# Altium footprint library STM32.PcbLib: 27 footprints (part 1 of 2)
Each footprint in its own frame and in the unit in brackets; x right, y up, seen from the top. Pads: shape width x height; smd on the part's side, far side on the other; paste and mask are expansions set on the pad; w line width, h text height; cw(c..) or ccw(c..) is an arc to the next point about the centre after c.
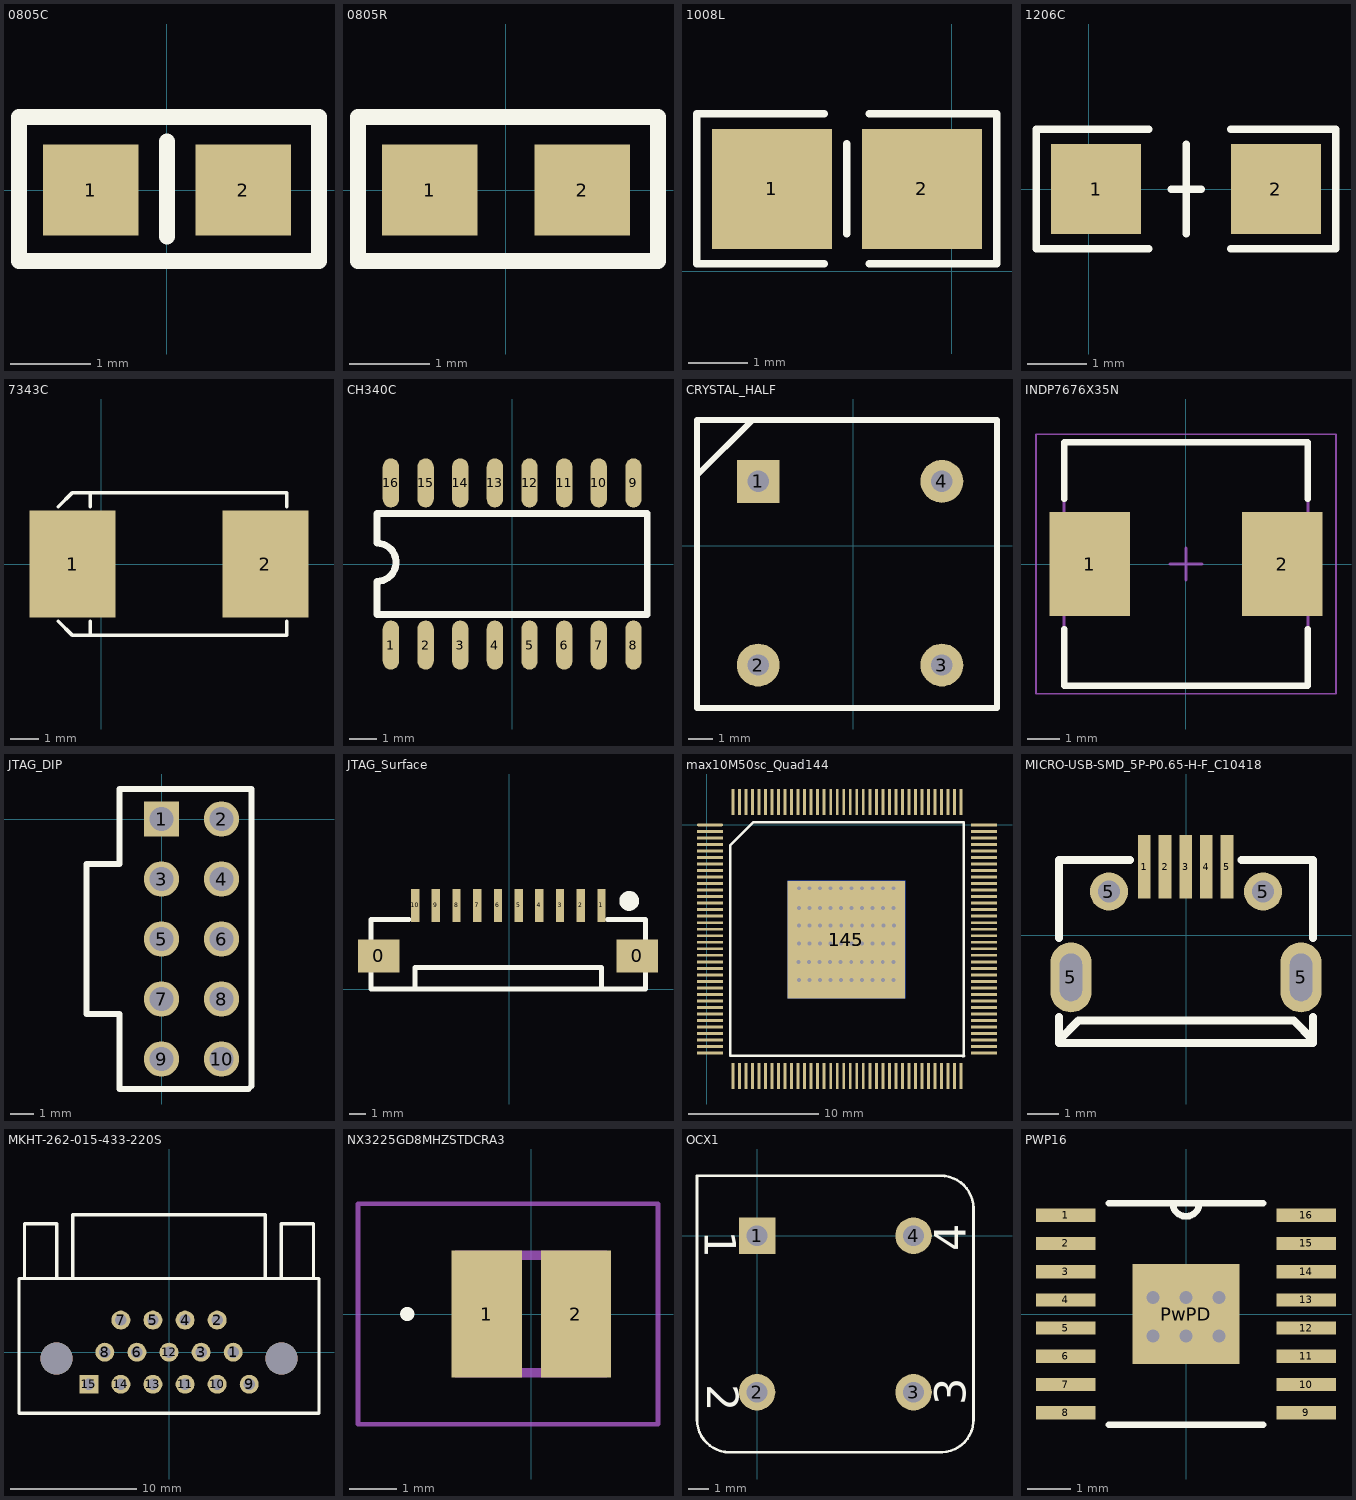
[diagram p0: the footprints below, top view; thin cyan lines are the x and y axes]

## 0805C [mm]
pads (2):
  rect 1.2x1.14 smd: 1(-0.955,0) 2(0.955,0)
Top Overlay:
  lines w0.2: 0,-0.584 0,0.61 ; -1.854,-0.889 -1.854,-0.369 -1.854,0.914 1.905,0.914 1.905,-0.889 -1.854,-0.889
3D body "C0805-2.step": height 0.8, standoff 0, extent -1,-0.625 1,0.625

## 0805R [mm]
pads (2):
  rect 1.2x1.14 smd: 1(-0.955,0) 2(0.955,0)
Top Overlay:
  lines w0.2: -1.854,-0.889 -1.854,-0.369 -1.854,0.914 1.905,0.914 1.905,-0.889 -1.854,-0.889
3D body "RES0805.step": height 0.8, standoff 0, extent -1.4,-0.625 1.4,0.625

## 1008L [mil]
pads (2):
  rect 80x80 smd: 1(-120,55) 2(-20,55)
Top Overlay:
  lines w5: -85,5 -170,5 -170,105 -85,105 ; -70,25 -70,85 ; -55,5 30,5 30,105 -55,105

## 1206C [mil]
pads (2):
  rect 60x60 smd: 1(5,0) 2(125,0)
Top Overlay:
  lines w5: 40,-40 -35,-40 -35,40 40,40 ; 55,0 75,0 ; 65,-30 65,30 ; 95,-40 165,-40 165,40 95,40

## 7343C [mil]
pads (2):
  rect 120x150 smd: 1(-40,0) 2(230,0)
Top Overlay:
  lines w5: -60,-80 -40,-100 260,-100 260,-80 ; -60,80 -40,100 260,100 260,80 ; -15,-100 -15,-80 ; -15,80 -15,100

## CH340C [mm]
pads (16):
  oval 0.6x1.798 smd: 1(-4.445,-2.972) 2(-3.175,-2.972) 3(-1.905,-2.972) 4(-0.635,-2.972) 5(0.635,-2.972) 6(1.905,-2.972) 7(3.175,-2.972) 8(4.445,-2.972) 9(4.445,2.972) 10(3.175,2.972) 11(1.905,2.972) 12(0.635,2.972) 13(-0.635,2.972) 14(-1.905,2.972) 15(-3.175,2.972) 16(-4.445,2.972)
Top Overlay:
  lines w0.254: -4.953,0.762 cw(c-4.953,0.064) -4.953,-0.635 -4.953,-1.85 -4.95,-1.85 4.95,-1.85 4.95,1.85 -4.95,1.85 -4.95,0.762

## CRYSTAL_HALF [mil]
height 100
pads (4):
  rect 70x70 / inner round 70 / far side rect 70x70 hole 35: 1(-155,105)
  round 70 hole 35: 2(-155,-195) 3(145,-195) 4(145,105)
Top Overlay:
  lines w10: -255,115 -165,205 ; -255,-265 235,-265 235,205 -255,205 -255,-265

## INDP7676X35N [mm] "Precision Wire Wound Inductor, 2-Leads, Body 7.60x7.60mm, IPC Medium Density"
height 3.55
pads (2):
  rect 2.5x3.25 smd: 1(-3,0) 2(3,0)
Top Overlay:
  lines w0.2: -3.8,-2.025 -3.8,-3.8 3.8,-3.8 3.8,-2.025 ; -3.8,2.025 -3.8,3.8 3.8,3.8 3.8,2.025
Mechanical 13:
  lines w0.1: -3.8,-3.8 3.8,-3.8 3.8,3.8 -3.8,3.8 -3.8,-3.8
Mechanical 15:
  lines w0.05: -4.675,-4.05 4.675,-4.05 4.675,4.05 -4.675,4.05 -4.675,-4.05
  lines w0.1: -0.5,0 0.5,0 ; 0,-0.5 0,0.5
3D body: height 3.55, standoff 0, extent -3.8,-3.8 3.8,3.8

## JTAG_DIP [mm]
pads (10):
  rect 1.5x1.5 hole 1: 1(0,0)
  round 1.5 hole 1: 2(2.54,0) 3(0,-2.54) 4(2.54,-2.54) 5(0,-5.08) 6(2.54,-5.08) 7(0,-7.62) 8(2.54,-7.62) 9(0,-10.16) 10(2.54,-10.16)
Top Overlay:
  lines w0.2: 0.955,-11.43 1.585,-11.43
  lines w0.254: -3.175,-8.255 -3.175,-1.905 -1.778,-1.905 -1.778,1.27 -1.27,1.27 3.81,1.27 3.81,-11.303 3.683,-11.43 0.955,-11.43 -1.27,-11.43 -1.778,-11.43 -1.778,-8.255 -3.175,-8.255

## JTAG_Surface [mm]
pads (12):
  rect 2.5x2 smd mask+0.1: 0(-7.875,2.016) 0(7.746,2.016)
  rect 0.5x2 smd mask+0.1: 1(5.579,5.066) 2(4.329,5.066) 3(3.079,5.066) 4(1.829,5.066) 5(0.579,5.066) 6(-0.671,5.066) 7(-1.921,5.066) 8(-3.171,5.066) 9(-4.421,5.066) 10(-5.671,5.066)
Top Overlay:
  circle w0.6: c7.259,5.334 r0.3
  lines w0.3: -6.046,4.216 -8.346,4.216 -8.346,0 8.254,0 8.254,4.216 5.954,4.216 ; -5.671,0 -5.671,1.316 5.579,1.316 5.579,0

## max10M50sc_Quad144 [mm]
pads (146):
  oval 2x0.22 smd: 1(0.25,0)
  rect 2x0.22 smd: 2(0.25,-0.5) 3(0.25,-1) 4(0.25,-1.5) 5(0.25,-2) 6(0.25,-2.5) 7(0.25,-3) 8(0.25,-3.5) 9(0.25,-4) 10(0.25,-4.5) 11(0.25,-5) 12(0.25,-5.5) 13(0.25,-6) 14(0.25,-6.5) 15(0.25,-7) 16(0.25,-7.5) 17(0.25,-8) 18(0.25,-8.5) 19(0.25,-9) 20(0.25,-9.5) 21(0.25,-10) 22(0.25,-10.5) 23(0.25,-11) 24(0.25,-11.5) 25(0.25,-12) 26(0.25,-12.5) 27(0.25,-13) 28(0.25,-13.5) 29(0.25,-14) 30(0.25,-14.5) 31(0.25,-15) 32(0.25,-15.5) 33(0.25,-16) 34(0.25,-16.5) 35(0.25,-17) 36(0.25,-17.5) 73(21.25,-17.5) 74(21.25,-17) 75(21.25,-16.5) 76(21.25,-16) 77(21.25,-15.5) 78(21.25,-15) 79(21.25,-14.5) 80(21.25,-14) 81(21.25,-13.5) 82(21.25,-13) 83(21.25,-12.5) 84(21.25,-12) 85(21.25,-11.5) 86(21.25,-11) 87(21.25,-10.5) 88(21.25,-10) 89(21.25,-9.5) 90(21.25,-9) 91(21.25,-8.5) 92(21.25,-8) 93(21.25,-7.5) 94(21.25,-7) 95(21.25,-6.5) 96(21.25,-6) 97(21.25,-5.5) 98(21.25,-5) 99(21.25,-4.5) 100(21.25,-4) 101(21.25,-3.5) 102(21.25,-3) 103(21.25,-2.5) 104(21.25,-2) 105(21.25,-1.5) 106(21.25,-1) 107(21.25,-0.5) 108(21.25,0)
  rect 0.22x2 smd: 37(2,-19.25) 38(2.5,-19.25) 39(3,-19.25) 40(3.5,-19.25) 41(4,-19.25) 42(4.5,-19.25) 43(5,-19.25) 44(5.5,-19.25) 45(6,-19.25) 46(6.5,-19.25) 47(7,-19.25) 48(7.5,-19.25) 49(8,-19.25) 50(8.5,-19.25) 51(9,-19.25) 52(9.5,-19.25) 53(10,-19.25) 54(10.5,-19.25) 55(11,-19.25) 56(11.5,-19.25) 57(12,-19.25) 58(12.5,-19.25) 59(13,-19.25) 60(13.5,-19.25) 61(14,-19.25) 62(14.5,-19.25) 63(15,-19.25) 64(15.5,-19.25) 65(16,-19.25) 66(16.5,-19.25) 67(17,-19.25) 68(17.5,-19.25) 69(18,-19.25) 70(18.5,-19.25) 71(19,-19.25) 72(19.5,-19.25) 109(19.5,1.75) 110(19,1.75) 111(18.5,1.75) 112(18,1.75) 113(17.5,1.75) 114(17,1.75) 115(16.5,1.75) 116(16,1.75) 117(15.5,1.75) 118(15,1.75) 119(14.5,1.75) 120(14,1.75) 121(13.5,1.75) 122(13,1.75) 123(12.5,1.75) 124(12,1.75) 125(11.5,1.75) 126(11,1.75) 127(10.5,1.75) 128(10,1.75) 129(9.5,1.75) 130(9,1.75) 131(8.5,1.75) 132(8,1.75) 133(7.5,1.75) 134(7,1.75) 135(6.5,1.75) 136(6,1.75) 137(5.5,1.75) 138(5,1.75) 139(4.5,1.75) 140(4,1.75) 141(3.5,1.75) 142(3,1.75) 143(2.5,1.75) 144(2,1.75)
  rect 9x9 smd: 145(10.7,-8.8)
  rect 9x9 smd far side: 145(10.7,-8.8)
via 7.08,-7.7 diameter 0.5 hole 0.3
via 7.887,-7.7 diameter 0.5 hole 0.3
via 8.693,-7.7 diameter 0.5 hole 0.3
via 9.5,-7.7 diameter 0.5 hole 0.3
via 10.307,-7.7 diameter 0.5 hole 0.3
via 11.113,-7.7 diameter 0.5 hole 0.3
via 11.92,-7.7 diameter 0.5 hole 0.3
via 12.727,-7.7 diameter 0.5 hole 0.3
via 13.533,-7.7 diameter 0.5 hole 0.3
via 14.34,-7.7 diameter 0.5 hole 0.3
via 7.06,-6.38 diameter 0.5 hole 0.3
via 7.867,-6.38 diameter 0.5 hole 0.3
via 8.673,-6.38 diameter 0.5 hole 0.3
via 9.48,-6.38 diameter 0.5 hole 0.3
via 10.287,-6.38 diameter 0.5 hole 0.3
via 11.093,-6.38 diameter 0.5 hole 0.3
via 11.9,-6.38 diameter 0.5 hole 0.3
via 12.707,-6.38 diameter 0.5 hole 0.3
via 13.513,-6.38 diameter 0.5 hole 0.3
via 14.32,-6.38 diameter 0.5 hole 0.3
via 14.32,-4.86 diameter 0.5 hole 0.3
via 13.513,-4.86 diameter 0.5 hole 0.3
via 12.707,-4.86 diameter 0.5 hole 0.3
via 11.9,-4.86 diameter 0.5 hole 0.3
via 11.093,-4.86 diameter 0.5 hole 0.3
via 10.287,-4.86 diameter 0.5 hole 0.3
via 9.48,-4.86 diameter 0.5 hole 0.3
via 8.673,-4.86 diameter 0.5 hole 0.3
via 7.867,-4.86 diameter 0.5 hole 0.3
via 7.06,-4.86 diameter 0.5 hole 0.3
via 7.06,-11.88 diameter 0.5 hole 0.3
via 7.867,-11.88 diameter 0.5 hole 0.3
via 8.673,-11.88 diameter 0.5 hole 0.3
via 9.48,-11.88 diameter 0.5 hole 0.3
via 10.287,-11.88 diameter 0.5 hole 0.3
via 11.093,-11.88 diameter 0.5 hole 0.3
via 11.9,-11.88 diameter 0.5 hole 0.3
via 12.707,-11.88 diameter 0.5 hole 0.3
via 13.513,-11.88 diameter 0.5 hole 0.3
via 14.32,-11.88 diameter 0.5 hole 0.3
via 7.04,-10.5 diameter 0.5 hole 0.3
via 7.847,-10.5 diameter 0.5 hole 0.3
via 8.653,-10.5 diameter 0.5 hole 0.3
via 9.46,-10.5 diameter 0.5 hole 0.3
via 10.267,-10.5 diameter 0.5 hole 0.3
via 11.073,-10.5 diameter 0.5 hole 0.3
via 11.88,-10.5 diameter 0.5 hole 0.3
via 12.687,-10.5 diameter 0.5 hole 0.3
via 13.493,-10.5 diameter 0.5 hole 0.3
via 14.3,-10.5 diameter 0.5 hole 0.3
via 7.06,-9.08 diameter 0.5 hole 0.3
via 7.867,-9.08 diameter 0.5 hole 0.3
via 8.673,-9.08 diameter 0.5 hole 0.3
via 9.48,-9.08 diameter 0.5 hole 0.3
via 10.287,-9.08 diameter 0.5 hole 0.3
via 11.093,-9.08 diameter 0.5 hole 0.3
via 11.9,-9.08 diameter 0.5 hole 0.3
via 12.707,-9.08 diameter 0.5 hole 0.3
via 13.513,-9.08 diameter 0.5 hole 0.3
via 14.32,-9.08 diameter 0.5 hole 0.3
Top Overlay:
  lines w0.2: 1.785,-17.715 19.715,-17.715 19.715,0.215 3.57,0.215 1.785,-1.57 1.785,-17.715
  lines w0.254: 19.615,-17.715 19.715,-17.715

## MICRO-USB-SMD_5P-P0.65-H-F_C10418 [mm]
pads (9):
  rect 0.4x2 smd: 1(-1.31,2.156) 2(-0.66,2.156) 3(-0.01,2.156) 4(0.64,2.156) 5(1.29,2.156)
  oval 1.3x2.199 hole 0.7 slot 1.5 at 90 deg: 5(-3.619,-1.329) 5(3.619,-1.329)
  round 1.2 hole 0.7: 5(-2.425,1.371) 5(2.425,1.371)
Top Overlay:
  lines w0.254: -4,-3.399 4,-3.399 4,-2.573 ; -4,-3.379 -4,-2.573 ; -4,-0.084 -4,2.361 -1.767,2.361 ; -3.97,-3.379 -3.97,-3.279 -3.38,-2.689 3.39,-2.689 3.98,-3.279 3.98,-3.399 ; 1.746,2.361 4,2.361 ; 4,-0.084 4,2.351

## MKHT-262-015-433-220S [mm]
height 1.2
pads (15):
  round 1.5 hole 0.9: 1(5.08,0) 2(3.81,2.54) 3(2.54,0) 4(1.27,2.54) 5(-1.27,2.54) 6(-2.54,0) 7(-3.81,2.54) 8(-5.08,0) 9(6.35,-2.54) 10(3.81,-2.54) 11(1.27,-2.54) 12(0,0) 13(-1.27,-2.54) 14(-3.81,-2.54)
  rect 1.5x1.5 hole 0.9: 15(-6.35,-2.54)
via -8.89,-0.51 diameter 2.54 hole 2.54
via 8.89,-0.51 diameter 2.54 hole 2.54
Top Overlay:
  lines w0.254: -11.43,5.84 -11.43,10.16 -8.89,10.16 -8.89,5.84 ; -7.62,5.84 -7.62,10.87 7.62,10.87 7.62,5.84 ; -11.875,-4.83 11.875,-4.83 11.875,5.84 -11.875,5.84 -11.875,-4.83 ; 8.89,5.84 11.43,5.84 11.43,10.16 8.89,10.16 8.89,5.84

## NX3225GD8MHZSTDCRA3 [mm]
pads (2):
  rect 1.5x2.7 smd: 1(-0.95,0) 2(0.95,0)
Top Overlay:
  lines w0.2: -2.7,0 ccw(c-2.65,0) -2.6,0 ; -2.7,0 cw(c-2.65,0) -2.6,0 ; -2.7,0 ccw(c-2.65,0) -2.6,0
Mechanical 13:
  lines w0.2: -1.6,-1.25 -1.6,1.25 1.6,1.25 1.6,-1.25 -1.6,-1.25
Mechanical 15:
  lines w0.1: -3.7,-2.35 -3.7,2.35 2.7,2.35 2.7,-2.35 -3.7,-2.35

## OCX1 [mil]
pads (4):
  rect 70x70 hole 40: 1(0,0)
  round 70 hole 40: 2(0,-300) 3(300,-300) 4(300,0)
Top Overlay:
  lines w5: -115.05,-352.5 ccw(c-52.5,-352.5) -52.5,-415.05 ; -115,-350 -115,115 351.26,115 cw(c352.13,52.13) 415,53 415,-355 ; -55,-415 355,-415 ccw(c352.5,-352.5) 415,-350
  text "1" at -100,10 h60
  text "2" at -95,-285 h60
  text "3" at 400,-325 h60
  text "4" at 400,-30 h60

## PWP16 [mil]
height 47
pads (17):
  rect 54x12 smd: 1(-109,89.57) 2(-109,63.98) 3(-109,38.39) 4(-109,12.8) 5(-109,-12.8) 6(-109,-38.39) 7(-109,-63.98) 8(-109,-89.57) 9(109,-89.57) 10(109,-63.98) 11(109,-38.39) 12(109,-12.8) 13(109,12.8) 14(109,38.39) 15(109,63.98) 16(109,89.57)
  rect 96.85x90.94 smd paste-47.93 mask-47.93: PwPD(0,0)
via -30,15 diameter 24 hole 12
via 0,15 diameter 24 hole 12
via 30,15 diameter 24 hole 12
via -30,-20 diameter 24 hole 12
via 0,-20 diameter 24 hole 12
via 30,-20 diameter 24 hole 12
Top Overlay:
  lines w6: -69.86,-100.5 69.86,-100.5 ; -69.86,100.5 69.86,100.5 ; -12,100.5 ccw(c0,100.5) 12,100.5
Top Paste:
  region: 45.48,-19.44 40.5,-19.44 34.94,-25 34.94,-42.52 45.48,-42.52
  region: 45.48,11.56 40.5,11.56 34.94,6 34.94,-6 40.5,-11.56 45.48,-11.56
  region: 45.48,42.52 34.94,42.52 34.94,25 40.5,19.44 45.48,19.44
  region: 21.5,-19.44 9.5,-19.44 3.94,-25 3.94,-42.52 27.06,-42.52 27.06,-25
  region: 21.5,11.56 9.5,11.56 3.94,6 3.94,-6 9.5,-11.56 21.5,-11.56 27.06,-6 27.06,6
  region: 27.06,42.52 3.94,42.52 3.94,25 9.5,19.44 21.5,19.44 27.06,25
  region: -9.5,-19.44 -21.5,-19.44 -27.06,-25 -27.06,-42.52 -3.94,-42.52 -3.94,-25
  region: -9.5,11.56 -21.5,11.56 -27.06,6 -27.06,-6 -21.5,-11.56 -9.5,-11.56 -3.94,-6 -3.94,6
  region: -3.94,42.52 -27.06,42.52 -27.06,25 -21.5,19.44 -9.5,19.44 -3.94,25
  region: -40.5,-19.44 -45.48,-19.44 -45.48,-42.52 -34.94,-42.52 -34.94,-25
  region: -40.5,11.56 -45.48,11.56 -45.48,-11.56 -40.5,-11.56 -34.94,-6 -34.94,6
  region: -34.94,42.52 -45.48,42.52 -45.48,19.44 -40.5,19.44 -34.94,25
Top Solder:
  region: 38.87,-47.97 38.87,47.97 50.93,47.97 50.93,-47.97
  region: 23.13,-47.97 23.13,47.97 7.87,47.97 7.87,-47.97
  region: -7.87,-47.97 -7.87,47.97 -23.13,47.97 -23.13,-47.97
  region: -50.93,-47.97 -50.93,47.97 -38.87,47.97 -38.87,-47.97
  region: -50.93,-47.97 -50.93,-23.37 50.93,-23.37 50.93,-47.97
  region: -50.93,-7.63 -50.93,7.63 50.93,7.63 50.93,-7.63
  region: -50.93,23.37 -50.93,47.97 50.93,47.97 50.93,23.37